# Altium footprint library Fuse.PcbLib: 123 footprints (part 2 of 8)
Each footprint in its own frame and in the unit in brackets; x right, y up, seen from the top. Pads: shape width x height; smd on the part's side, far side on the other; paste and mask are expansions set on the pad; w line width, h text height; cw(c..) or ccw(c..) is an arc to the next point about the centre after c.
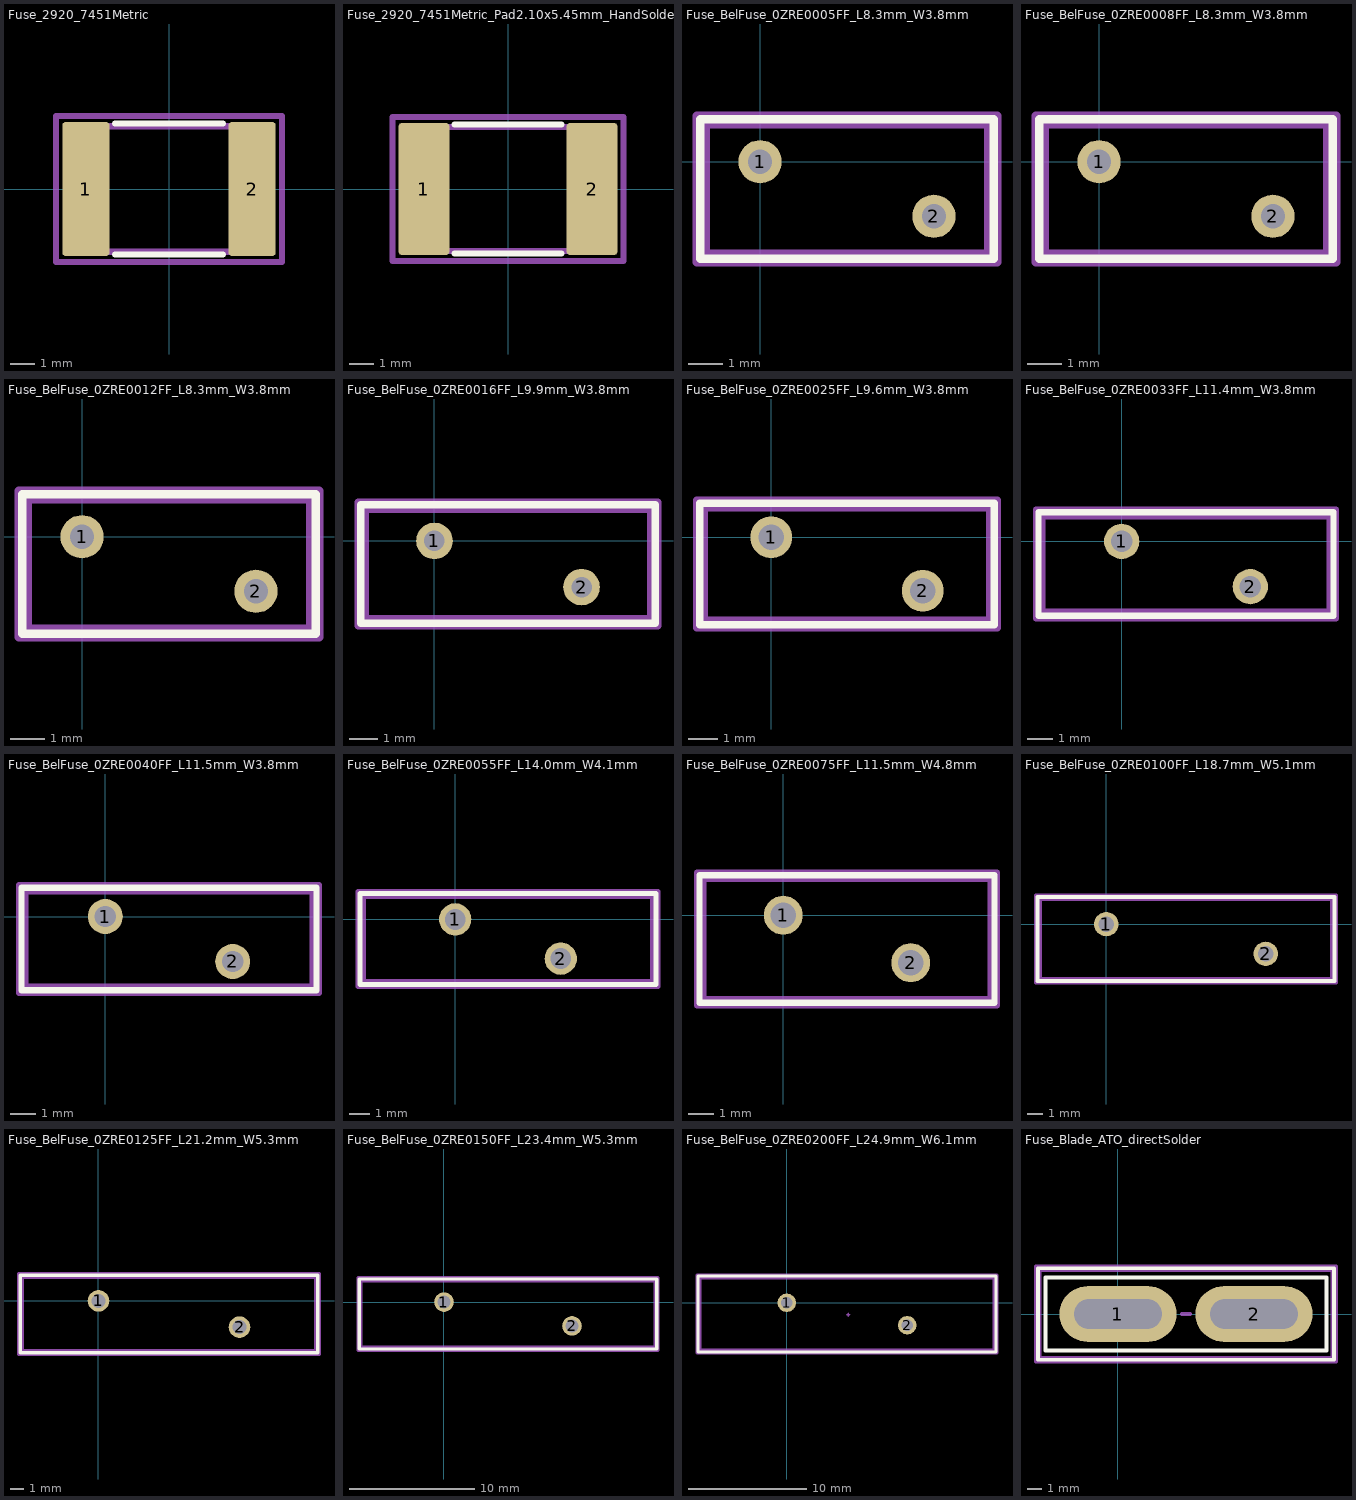
[diagram p1: the footprints below, top view; thin cyan lines are the x and y axes]

## Fuse_2920_7451Metric [mm]
pads (2):
  rrect13% 1.925x5.45 smd: 1(-3.387,0) 2(3.387,0)
F.SilkS:
  lines w0.254: -2.204,-2.67 2.204,-2.67 ; -2.204,2.67 2.204,2.67
Top Assembly:
  lines w0.254: -3.678,-2.56 3.678,-2.56 3.678,2.56 -3.678,2.56 -3.678,-2.56
  text "'.Designator'" at -4.047,-0.84 h1
Top Courtyard:
  lines w0.254: -4.6,-2.98 4.6,-2.98 4.6,2.98 -4.6,2.98 -4.6,-2.98
Top Designator:
  text ".Designator" at -7.618,-0.508 h1.52

## Fuse_2920_7451Metric_Pad2.10x5.45mm_HandSolder [mm]
pads (2):
  rrect12% 2.1x5.45 smd: 1(-3.475,0) 2(3.475,0)
F.SilkS:
  lines w0.254: -2.204,-2.67 2.204,-2.67 ; -2.204,2.67 2.204,2.67
Top Assembly:
  lines w0.254: -3.678,-2.56 3.678,-2.56 3.678,2.56 -3.678,2.56 -3.678,-2.56
  text "'.Designator'" at -4.047,-0.84 h1
Top Courtyard:
  lines w0.254: -4.78,-2.98 4.78,-2.98 4.78,2.98 -4.78,2.98 -4.78,-2.98
Top Designator:
  text ".Designator" at -7.618,-0.508 h1.52

## Fuse_BelFuse_0ZRE0005FF_L8.3mm_W3.8mm [mm]
pads (2):
  round 1.27 hole 0.71: 1(0,0) 2(5.1,-1.6)
F.SilkS:
  lines w0.254: -1.75,-2.85 6.85,-2.85 6.85,1.25 -1.75,1.25 -1.75,-2.85
Top Assembly:
  lines w0.254: -1.6,-2.7 6.7,-2.7 6.7,1.1 -1.6,1.1 -1.6,-2.7
  text "'.Designator'" at -0.237,-0.84 h1
Top Courtyard:
  lines w0.254: -1.85,-2.95 6.95,-2.95 6.95,1.35 -1.85,1.35 -1.85,-2.95
Top Designator:
  text ".Designator" at -4.753,-1.308 h1.52

## Fuse_BelFuse_0ZRE0008FF_L8.3mm_W3.8mm [mm]
pads (2):
  round 1.27 hole 0.71: 1(0,0) 2(5.1,-1.6)
F.SilkS:
  lines w0.254: -1.75,-2.85 6.85,-2.85 6.85,1.25 -1.75,1.25 -1.75,-2.85
Top Assembly:
  lines w0.254: -1.6,-2.7 6.7,-2.7 6.7,1.1 -1.6,1.1 -1.6,-2.7
  text "'.Designator'" at -0.237,-0.84 h1
Top Courtyard:
  lines w0.254: -1.85,-2.95 6.95,-2.95 6.95,1.35 -1.85,1.35 -1.85,-2.95
Top Designator:
  text ".Designator" at -4.753,-1.308 h1.52

## Fuse_BelFuse_0ZRE0012FF_L8.3mm_W3.8mm [mm]
pads (2):
  round 1.27 hole 0.71: 1(0,0) 2(5.1,-1.6)
F.SilkS:
  lines w0.254: -1.75,-2.85 6.85,-2.85 6.85,1.25 -1.75,1.25 -1.75,-2.85
Top Assembly:
  lines w0.254: -1.6,-2.7 6.7,-2.7 6.7,1.1 -1.6,1.1 -1.6,-2.7
  text "'.Designator'" at -0.237,-0.84 h1
Top Courtyard:
  lines w0.254: -1.85,-2.95 6.95,-2.95 6.95,1.35 -1.85,1.35 -1.85,-2.95
Top Designator:
  text ".Designator" at -4.753,-1.308 h1.52

## Fuse_BelFuse_0ZRE0016FF_L9.9mm_W3.8mm [mm]
pads (2):
  round 1.27 hole 0.71: 1(0,0) 2(5.1,-1.6)
F.SilkS:
  lines w0.254: -2.55,-2.85 7.65,-2.85 7.65,1.25 -2.55,1.25 -2.55,-2.85
Top Assembly:
  lines w0.254: -2.4,-2.7 7.5,-2.7 7.5,1.1 -2.4,1.1 -2.4,-2.7
  text "'.Designator'" at -0.237,-0.84 h1
Top Courtyard:
  lines w0.254: -2.65,-2.95 7.75,-2.95 7.75,1.35 -2.65,1.35 -2.65,-2.95
Top Designator:
  text ".Designator" at -5.068,-1.308 h1.52

## Fuse_BelFuse_0ZRE0025FF_L9.6mm_W3.8mm [mm]
pads (2):
  round 1.4 hole 0.85: 1(0,0) 2(5.1,-1.8)
F.SilkS:
  lines w0.254: -2.4,-2.95 7.5,-2.95 7.5,1.15 -2.4,1.15 -2.4,-2.95
Top Assembly:
  lines w0.254: -2.25,-2.8 7.35,-2.8 7.35,1 -2.25,1 -2.25,-2.8
  text "'.Designator'" at -0.237,-0.84 h1
Top Courtyard:
  lines w0.254: -2.5,-3.05 7.6,-3.05 7.6,1.25 -2.5,1.25 -2.5,-3.05
Top Designator:
  text ".Designator" at -5.068,-1.408 h1.52

## Fuse_BelFuse_0ZRE0033FF_L11.4mm_W3.8mm [mm]
pads (2):
  round 1.4 hole 0.85: 1(0,0) 2(5.1,-1.8)
F.SilkS:
  lines w0.254: -3.3,-2.95 8.4,-2.95 8.4,1.15 -3.3,1.15 -3.3,-2.95
Top Assembly:
  lines w0.254: -3.15,-2.8 8.25,-2.8 8.25,1 -3.15,1 -3.15,-2.8
  text "'.Designator'" at -0.237,-0.84 h1
Top Courtyard:
  lines w0.254: -3.4,-3.05 8.5,-3.05 8.5,1.25 -3.4,1.25 -3.4,-3.05
Top Designator:
  text ".Designator" at -5.068,-1.408 h1.52

## Fuse_BelFuse_0ZRE0040FF_L11.5mm_W3.8mm [mm]
pads (2):
  round 1.4 hole 0.85: 1(0,0) 2(5.1,-1.8)
F.SilkS:
  lines w0.254: -3.35,-2.95 8.45,-2.95 8.45,1.15 -3.35,1.15 -3.35,-2.95
Top Assembly:
  lines w0.254: -3.2,-2.8 8.3,-2.8 8.3,1 -3.2,1 -3.2,-2.8
  text "'.Designator'" at -0.237,-0.84 h1
Top Courtyard:
  lines w0.254: -3.45,-3.05 8.55,-3.05 8.55,1.25 -3.45,1.25 -3.45,-3.05
Top Designator:
  text ".Designator" at -5.068,-1.408 h1.52

## Fuse_BelFuse_0ZRE0055FF_L14.0mm_W4.1mm [mm]
pads (2):
  round 1.56 hole 1.01: 1(0,0) 2(5.1,-1.9)
F.SilkS:
  lines w0.254: -4.6,-3.15 9.7,-3.15 9.7,1.25 -4.6,1.25 -4.6,-3.15
Top Assembly:
  lines w0.254: -4.45,-3 9.55,-3 9.55,1.1 -4.45,1.1 -4.45,-3
  text "'.Designator'" at -0.237,-0.84 h1
Top Courtyard:
  lines w0.254: -4.7,-3.25 9.8,-3.25 9.8,1.35 -4.7,1.35 -4.7,-3.25
Top Designator:
  text ".Designator" at -5.068,-1.458 h1.52

## Fuse_BelFuse_0ZRE0075FF_L11.5mm_W4.8mm [mm]
pads (2):
  round 1.56 hole 1.01: 1(0,0) 2(5.1,-1.9)
F.SilkS:
  lines w0.254: -3.35,-3.5 8.45,-3.5 8.45,1.6 -3.35,1.6 -3.35,-3.5
Top Assembly:
  lines w0.254: -3.2,-3.35 8.3,-3.35 8.3,1.45 -3.2,1.45 -3.2,-3.35
  text "'.Designator'" at -0.237,-0.84 h1
Top Courtyard:
  lines w0.254: -3.45,-3.6 8.55,-3.6 8.55,1.7 -3.45,1.7 -3.45,-3.6
Top Designator:
  text ".Designator" at -5.068,-1.458 h1.52

## Fuse_BelFuse_0ZRE0100FF_L18.7mm_W5.1mm [mm]
pads (2):
  round 1.56 hole 1.01: 1(0,0) 2(10.2,-1.9)
F.SilkS:
  lines w0.254: -4.4,-3.65 14.6,-3.65 14.6,1.75 -4.4,1.75 -4.4,-3.65
Top Assembly:
  lines w0.254: -4.25,-3.5 14.45,-3.5 14.45,1.6 -4.25,1.6 -4.25,-3.5
  text "'.Designator'" at 1.653,-1.24 h1
Top Courtyard:
  lines w0.254: -4.5,-3.75 14.7,-3.75 14.7,1.85 -4.5,1.85 -4.5,-3.75
Top Designator:
  text ".Designator" at -2.518,-1.458 h1.52

## Fuse_BelFuse_0ZRE0125FF_L21.2mm_W5.3mm [mm]
pads (2):
  round 1.56 hole 1.01: 1(0,0) 2(10.2,-1.9)
F.SilkS:
  lines w0.254: -5.65,-3.75 15.85,-3.75 15.85,1.85 -5.65,1.85 -5.65,-3.75
Top Assembly:
  lines w0.254: -5.5,-3.6 15.7,-3.6 15.7,1.7 -5.5,1.7 -5.5,-3.6
  text "'.Designator'" at 1.953,-1.34 h1
Top Courtyard:
  lines w0.254: -5.75,-3.85 15.95,-3.85 15.95,1.95 -5.75,1.95 -5.75,-3.85
Top Designator:
  text ".Designator" at -2.518,-1.458 h1.52

## Fuse_BelFuse_0ZRE0150FF_L23.4mm_W5.3mm [mm]
pads (2):
  round 1.56 hole 1.01: 1(0,0) 2(10.2,-1.9)
F.SilkS:
  lines w0.254: -6.75,-3.75 16.95,-3.75 16.95,1.85 -6.75,1.85 -6.75,-3.75
Top Assembly:
  lines w0.254: -6.6,-3.6 16.8,-3.6 16.8,1.7 -6.6,1.7 -6.6,-3.6
  text "'.Designator'" at 1.853,-0.94 h1
Top Courtyard:
  lines w0.254: -6.85,-3.85 17.05,-3.85 17.05,1.95 -6.85,1.95 -6.85,-3.85
Top Designator:
  text ".Designator" at -2.518,-1.458 h1.52

## Fuse_BelFuse_0ZRE0200FF_L24.9mm_W6.1mm [mm]
pads (2):
  round 1.56 hole 1.01: 1(0,0) 2(10.2,-1.9)
F.SilkS:
  lines w0.254: -7.5,-4.15 17.7,-4.15 17.7,2.25 -7.5,2.25 -7.5,-4.15
Top Component Center:
  lines w0.127: 5.08,-1.016 5.334,-1.016 ; 5.207,-1.143 5.207,-0.889
Top Assembly:
  lines w0.254: -7.35,-4 17.55,-4 17.55,2.1 -7.35,2.1 -7.35,-4
  text "'.Designator'" at 2.153,-0.84 h1
Top Courtyard:
  lines w0.254: -7.6,-4.25 17.8,-4.25 17.8,2.35 -7.6,2.35 -7.6,-4.25
Top Designator:
  text ".Designator" at -2.518,-1.458 h1.52

## Fuse_Blade_ATO_directSolder [mm]
pads (2):
  rrect100% 8x3.8 hole 2 slot 6 at 0 deg: 1(0,0) 2(9.3,0)
F.SilkS:
  lines w0.254: -5.47,-3.12 14.77,-3.12 14.77,3.12 -5.47,3.12 -5.47,-3.12 ; -4.95,-2.5 14.25,-2.5 14.25,2.5 -4.95,2.5 -4.95,-2.5
Top Assembly:
  lines w0.254: 4.35,0 4.95,0 ; -5.35,-3 14.65,-3 14.65,3 -5.35,3 -5.35,-3
  text "'.Designator'" at 0.703,0.66 h1
Top Courtyard:
  lines w0.254: -5.6,-3.25 14.9,-3.25 14.9,3.25 -5.6,3.25 -5.6,-3.25
Top Designator:
  text ".Designator" at -2.968,-0.508 h1.52